# Altium footprint library national-instruments.PCBLIB: 1 footprints
Each footprint in its own frame and in the unit in brackets; x right, y up, seen from the top. Pads: shape width x height; smd on the part's side, far side on the other; paste and mask are expansions set on the pad; w line width, h text height; cw(c..) or ccw(c..) is an arc to the next point about the centre after c.
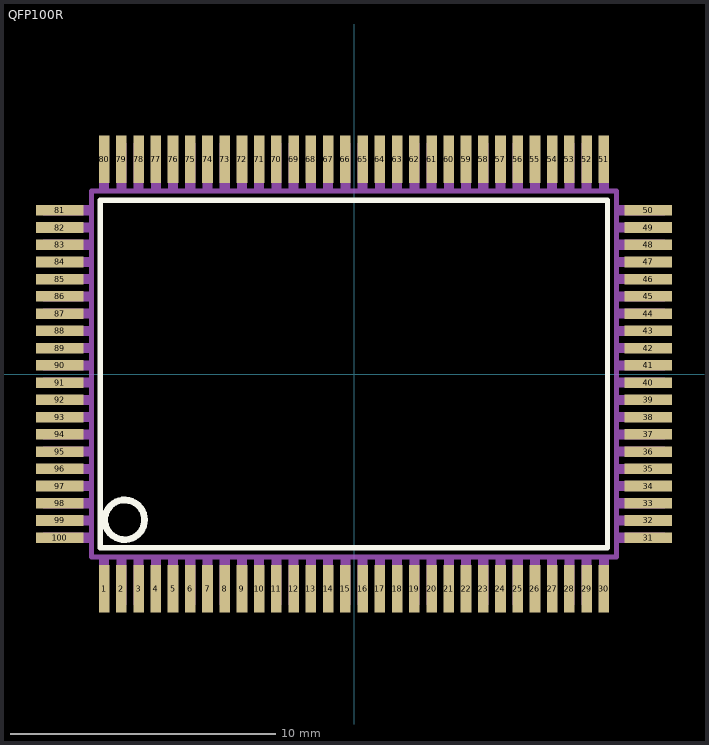
[diagram p0: the footprint, top view; thin cyan lines are the x and y axes]

## QFP100R [mm]
pads (100):
  rect 0.4x1.8 smd: 1(-9.425,-8.1) 2(-8.775,-8.1) 3(-8.125,-8.1) 4(-7.475,-8.1) 5(-6.825,-8.1) 6(-6.175,-8.1) 7(-5.525,-8.1) 8(-4.875,-8.1) 9(-4.225,-8.1) 10(-3.575,-8.1) 11(-2.925,-8.1) 12(-2.275,-8.1) 13(-1.625,-8.1) 14(-0.975,-8.1) 15(-0.325,-8.1) 16(0.325,-8.1) 17(0.975,-8.1) 18(1.625,-8.1) 19(2.275,-8.1) 20(2.925,-8.1) 21(3.575,-8.1) 22(4.225,-8.1) 23(4.875,-8.1) 24(5.525,-8.1) 25(6.175,-8.1) 26(6.825,-8.1) 27(7.475,-8.1) 28(8.125,-8.1) 29(8.775,-8.1) 30(9.425,-8.1) 51(9.425,8.1) 52(8.775,8.1) 53(8.125,8.1) 54(7.475,8.1) 55(6.825,8.1) 56(6.175,8.1) 57(5.525,8.1) 58(4.875,8.1) 59(4.225,8.1) 60(3.575,8.1) 61(2.925,8.1) 62(2.275,8.1) 63(1.625,8.1) 64(0.975,8.1) 65(0.325,8.1) 66(-0.325,8.1) 67(-0.975,8.1) 68(-1.625,8.1) 69(-2.275,8.1) 70(-2.925,8.1) 71(-3.575,8.1) 72(-4.225,8.1) 73(-4.875,8.1) 74(-5.525,8.1) 75(-6.175,8.1) 76(-6.825,8.1) 77(-7.475,8.1) 78(-8.125,8.1) 79(-8.775,8.1) 80(-9.425,8.1)
  rect 1.8x0.4 smd: 31(11.1,-6.175) 32(11.1,-5.525) 33(11.1,-4.875) 34(11.1,-4.225) 35(11.1,-3.575) 36(11.1,-2.925) 37(11.1,-2.275) 38(11.1,-1.625) 39(11.1,-0.975) 40(11.1,-0.325) 41(11.1,0.325) 42(11.1,0.975) 43(11.1,1.625) 44(11.1,2.275) 45(11.1,2.925) 46(11.1,3.575) 47(11.1,4.225) 48(11.1,4.875) 49(11.1,5.525) 50(11.1,6.175) 81(-11.1,6.175) 82(-11.1,5.525) 83(-11.1,4.875) 84(-11.1,4.225) 85(-11.1,3.575) 86(-11.1,2.925) 87(-11.1,2.275) 88(-11.1,1.625) 89(-11.1,0.975) 90(-11.1,0.325) 91(-11.1,-0.325) 92(-11.1,-0.975) 93(-11.1,-1.625) 94(-11.1,-2.275) 95(-11.1,-2.925) 96(-11.1,-3.575) 97(-11.1,-4.225) 98(-11.1,-4.875) 99(-11.1,-5.525) 100(-11.1,-6.175)
Top Overlay:
  circle w0.254: c-8.65,-5.5 r0.75
  lines w0.203: -9.57,-6.56 9.56,-6.56 9.56,6.56 -9.57,6.56 -9.57,-6.56
Mechanical 16:
  rectangle: -9.615,-8.72 -9.235,-6.95
  rectangle: 9.95,-6.365 11.72,-5.985
  rectangle: -8.965,-8.72 -8.585,-6.95
  rectangle: -8.315,-8.72 -7.935,-6.95
  rectangle: -7.665,-8.72 -7.285,-6.95
  rectangle: -7.015,-8.72 -6.635,-6.95
  rectangle: -6.365,-8.72 -5.985,-6.95
  rectangle: -5.715,-8.72 -5.335,-6.95
  rectangle: -5.065,-8.72 -4.685,-6.95
  rectangle: -4.415,-8.72 -4.035,-6.95
  rectangle: -3.765,-8.72 -3.385,-6.95
  rectangle: -3.115,-8.72 -2.735,-6.95
  rectangle: -2.465,-8.72 -2.085,-6.95
  rectangle: -1.815,-8.72 -1.435,-6.95
  rectangle: -1.165,-8.72 -0.785,-6.95
  rectangle: -0.515,-8.72 -0.135,-6.95
  rectangle: 0.135,-8.72 0.515,-6.95
  rectangle: 0.785,-8.72 1.165,-6.95
  rectangle: 1.435,-8.72 1.815,-6.95
  rectangle: 2.085,-8.72 2.465,-6.95
  rectangle: 2.735,-8.72 3.115,-6.95
  rectangle: 3.385,-8.72 3.765,-6.95
  rectangle: 4.035,-8.72 4.415,-6.95
  rectangle: 4.685,-8.72 5.065,-6.95
  rectangle: 5.335,-8.72 5.715,-6.95
  rectangle: 5.985,-8.72 6.365,-6.95
  rectangle: 6.635,-8.72 7.015,-6.95
  rectangle: 7.285,-8.72 7.665,-6.95
  rectangle: 7.935,-8.72 8.315,-6.95
  rectangle: 8.585,-8.72 8.965,-6.95
  rectangle: 9.235,-8.72 9.615,-6.95
  rectangle: 9.95,-5.715 11.72,-5.335
  rectangle: 9.95,-5.065 11.72,-4.685
  rectangle: 9.95,-4.415 11.72,-4.035
  rectangle: 9.95,-3.765 11.72,-3.385
  rectangle: 9.95,-3.115 11.72,-2.735
  rectangle: 9.95,-2.465 11.72,-2.085
  rectangle: 9.95,-1.815 11.72,-1.435
  rectangle: 9.95,-1.165 11.72,-0.785
  rectangle: 9.95,-0.515 11.72,-0.135
  rectangle: 9.95,0.135 11.72,0.515
  rectangle: 9.95,0.785 11.72,1.165
  rectangle: 9.95,1.435 11.72,1.815
  rectangle: 9.95,2.085 11.72,2.465
  rectangle: 9.95,2.735 11.72,3.115
  rectangle: 9.95,3.385 11.72,3.765
  rectangle: 9.95,4.035 11.72,4.415
  rectangle: 9.95,4.685 11.72,5.065
  rectangle: 9.95,5.335 11.72,5.715
  rectangle: 9.95,5.985 11.72,6.365
  rectangle: 9.235,6.95 9.615,8.72
  rectangle: 8.585,6.95 8.965,8.72
  rectangle: 7.935,6.95 8.315,8.72
  rectangle: 7.285,6.95 7.665,8.72
  rectangle: 6.635,6.95 7.015,8.72
  rectangle: 5.985,6.95 6.365,8.72
  rectangle: 5.335,6.95 5.715,8.72
  rectangle: 4.685,6.95 5.065,8.72
  rectangle: 4.035,6.95 4.415,8.72
  rectangle: 3.385,6.95 3.765,8.72
  rectangle: 2.735,6.95 3.115,8.72
  rectangle: 2.085,6.95 2.465,8.72
  rectangle: 1.435,6.95 1.815,8.72
  rectangle: 0.785,6.95 1.165,8.72
  rectangle: 0.135,6.95 0.515,8.72
  rectangle: -0.515,6.95 -0.135,8.72
  rectangle: -1.165,6.95 -0.785,8.72
  rectangle: -1.815,6.95 -1.435,8.72
  rectangle: -2.465,6.95 -2.085,8.72
  rectangle: -3.115,6.95 -2.735,8.72
  rectangle: -3.765,6.95 -3.385,8.72
  rectangle: -4.415,6.95 -4.035,8.72
  rectangle: -5.065,6.95 -4.685,8.72
  rectangle: -5.715,6.95 -5.335,8.72
  rectangle: -6.365,6.95 -5.985,8.72
  rectangle: -7.015,6.95 -6.635,8.72
  rectangle: -7.665,6.95 -7.285,8.72
  rectangle: -8.315,6.95 -7.935,8.72
  rectangle: -8.965,6.95 -8.585,8.72
  rectangle: -9.615,6.95 -9.235,8.72
  rectangle: -11.72,5.985 -9.95,6.365
  rectangle: -11.72,5.335 -9.95,5.715
  rectangle: -11.72,4.685 -9.95,5.065
  rectangle: -11.72,4.035 -9.95,4.415
  rectangle: -11.72,3.385 -9.95,3.765
  rectangle: -11.72,2.735 -9.95,3.115
  rectangle: -11.72,2.085 -9.95,2.465
  rectangle: -11.72,1.435 -9.95,1.815
  rectangle: -11.72,0.785 -9.95,1.165
  rectangle: -11.72,0.135 -9.95,0.515
  rectangle: -11.72,-0.515 -9.95,-0.135
  rectangle: -11.72,-1.165 -9.95,-0.785
  rectangle: -11.72,-1.815 -9.95,-1.435
  rectangle: -11.72,-2.465 -9.95,-2.085
  rectangle: -11.72,-3.115 -9.95,-2.735
  rectangle: -11.72,-3.765 -9.95,-3.385
  rectangle: -11.72,-4.415 -9.95,-4.035
  rectangle: -11.72,-5.065 -9.95,-4.685
  rectangle: -11.72,-5.715 -9.95,-5.335
  rectangle: -11.72,-6.365 -9.95,-5.985
  lines w0.203: -9.9,-6.9 9.9,-6.9 9.9,6.9 -9.9,6.9 -9.9,-6.9